# Altium schematic symbol library Kyocera.SchLib: 1 symbol
Pins are listed as number, name and electrical type; pins without a type are passive.

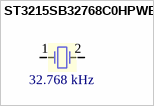
[diagram p0: symbol ST3215SB32768C0HPWBB]

## ST3215SB32768C0HPWBB
designator Y?, comment value 32.768 kHz  (hidden comment: 32.768kHz ±20ppm Crystal 7pF 70 kOhms 2-SMD, No Lead)
CRYSTAL 32.7680KHZ 7PF SMD; MPN: ST3215SB32768C0HPWBB; Supplier 1: Digi-Key; Supplier Part Number 1: 1253-1113-1-ND
footprint CAPC3215X08N (Chip Capacitor, 2-Leads, Body 3.20x1.50mm, IPC Medium Density)
pins: 1, 2